# Altium footprint library FH101C.PcbLib: 1 footprints
Each footprint in its own frame and in the unit in brackets; x right, y up, seen from the top. Pads: shape width x height; smd on the part's side, far side on the other; paste and mask are expansions set on the pad; w line width, h text height; cw(c..) or ccw(c..) is an arc to the next point about the centre after c.
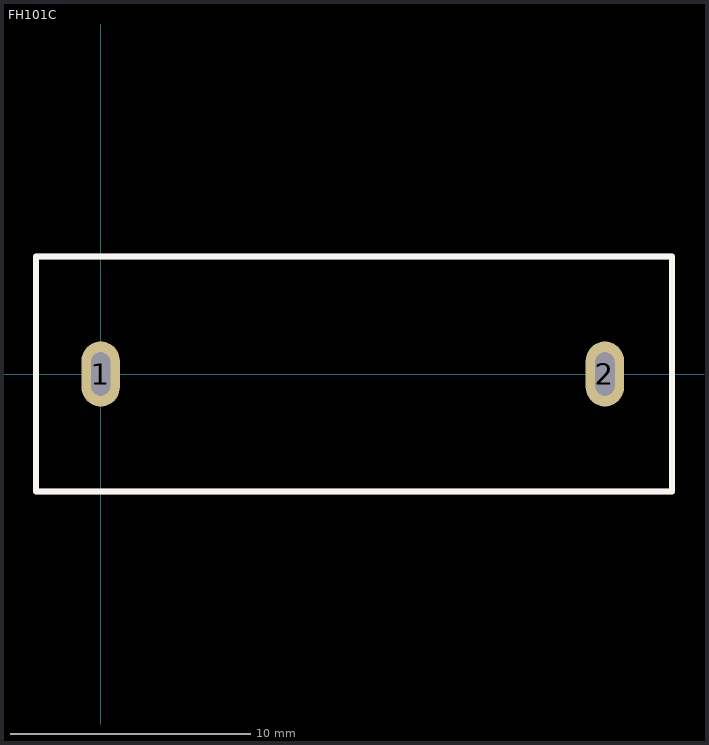
[diagram p0: the footprint, top view; thin cyan lines are the x and y axes]

## FH101C [mm]
pads (2):
  oval 1.6x2.7 hole 0.8 slot 1.8 at 90 deg: 1(0,0) 2(21,0)
Top Overlay:
  lines w0.254: -2.7,-4.9 -2.7,4.9 23.8,4.9 23.8,-4.9 -2.7,-4.9
TopAssy:
  lines w0.254: -2.7,-4.9 -2.7,4.9 23.8,4.9 23.8,-4.9 -2.7,-4.9
3D body "User Library-FH-101C.step": height 13.5, standoff -2.9, extent -2.7,-4.9 23.8,4.9